# Altium footprint library Custom.PcbLib: 446 footprints (part 24 of 28)
Each footprint in its own frame and in the unit in brackets; x right, y up, seen from the top. Pads: shape width x height; smd on the part's side, far side on the other; paste and mask are expansions set on the pad; w line width, h text height; cw(c..) or ccw(c..) is an arc to the next point about the centre after c.
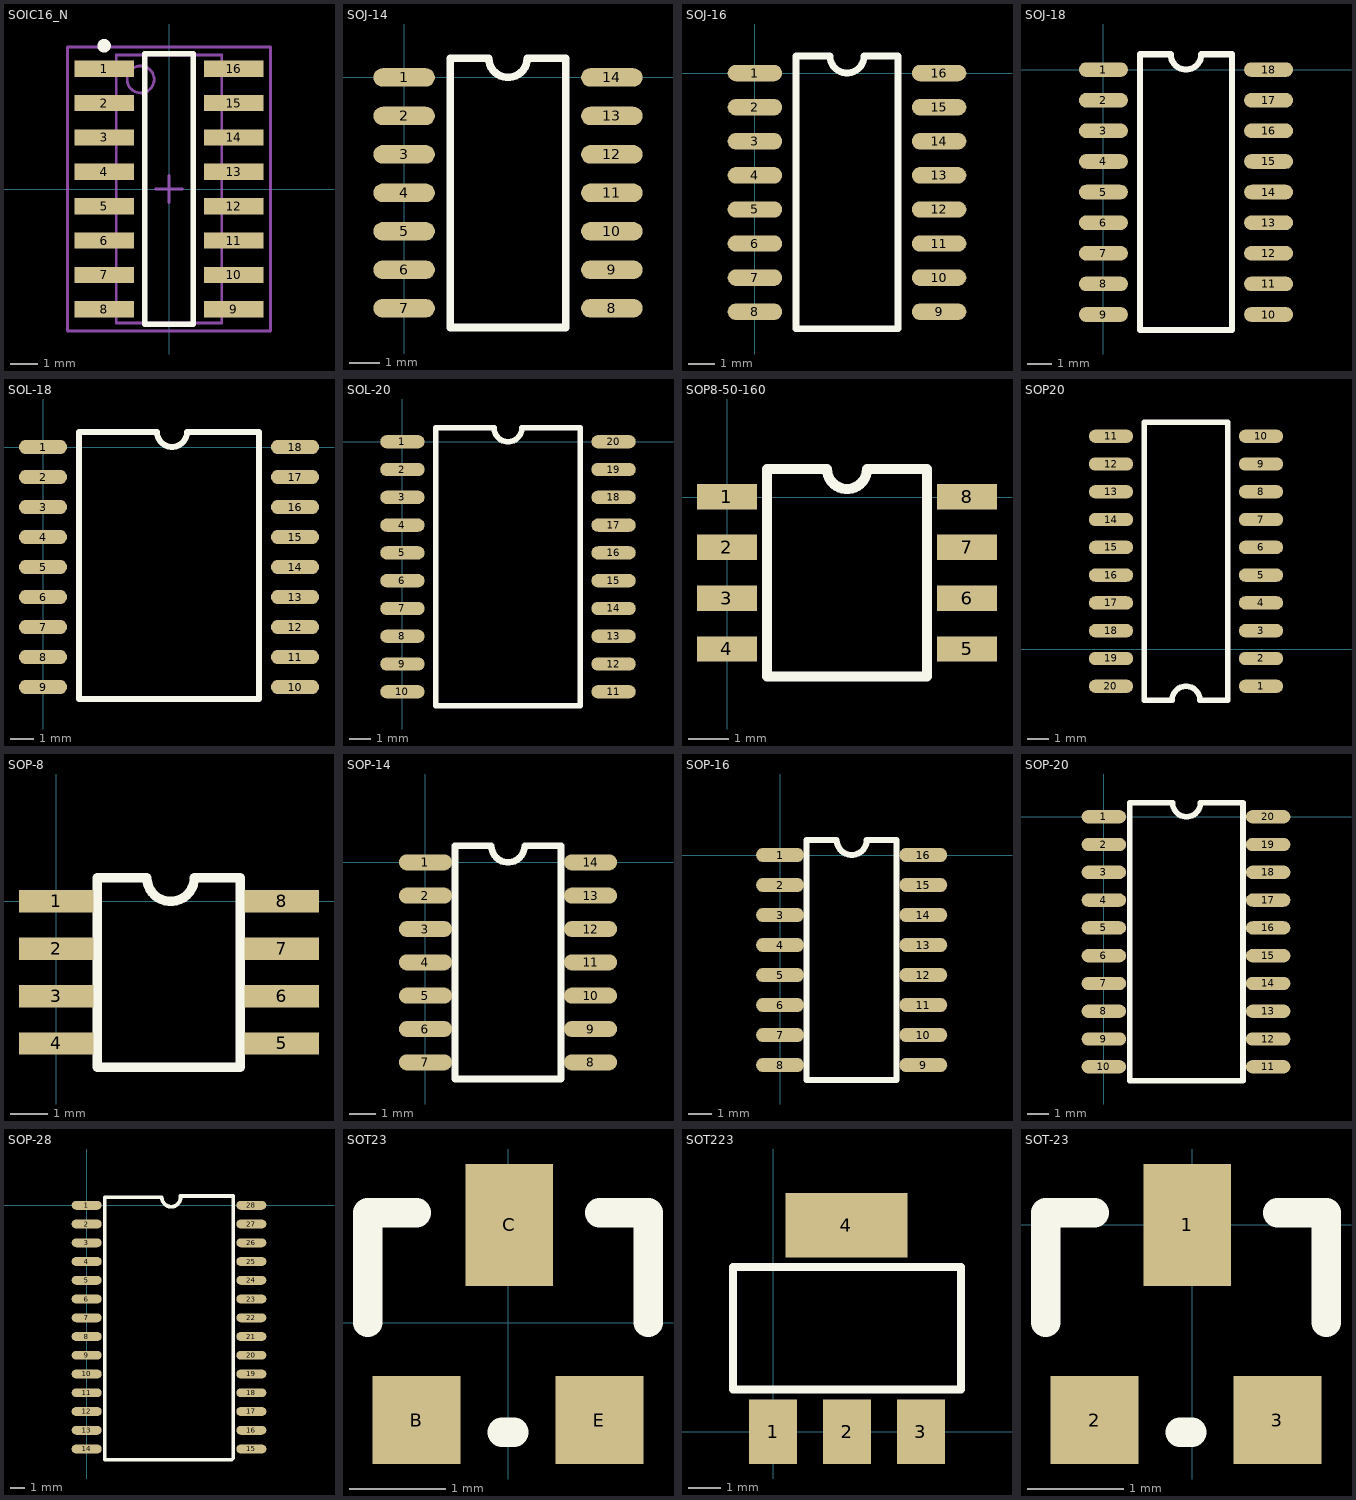
[diagram p23: the footprints below, top view; thin cyan lines are the x and y axes]

## SOIC16_N [mm] "SOIC, 16-Leads, Body 9.9x3.9mm, Pitch 1.27mm, IPC Medium Density"
height 1.91
pads (16):
  rect 2.2x0.6 smd: 1(-2.4,4.445) 2(-2.4,3.175) 3(-2.4,1.905) 4(-2.4,0.635) 5(-2.4,-0.635) 6(-2.4,-1.905) 7(-2.4,-3.175) 8(-2.4,-4.445) 9(2.4,-4.445) 10(2.4,-3.175) 11(2.4,-1.905) 12(2.4,-0.635) 13(2.4,0.635) 14(2.4,1.905) 15(2.4,3.175) 16(2.4,4.445)
Top Overlay:
  circle w0.25: c-2.4,5.295 r0.125
  lines w0.2: -0.9,-5 -0.9,5 0.9,5 0.9,-5 -0.9,-5
Mechanical 13:
  circle w0.1: c-1.05,4.05 r0.5
  lines w0.1: -1.95,-4.95 -1.95,4.95 1.95,4.95 1.95,-4.95 -1.95,-4.95
Mechanical 15:
  lines w0.1: -0.5,0 0.5,0 ; 0,-0.5 0,0.5 ; -3.75,-5.25 -3.75,5.25 3.75,5.25 3.75,-5.25 -3.75,-5.25
3D body: height 1.91, standoff 0, extent -1.95,-4.95 1.95,4.95

## SOJ-14 [mil]
pads (14):
  oval 80x24 smd: 1(0,0) 2(0,-50) 3(0,-100) 4(0,-150) 5(0,-200) 6(0,-250) 7(0,-300) 8(270,-300) 9(270,-250) 10(270,-200) 11(270,-150) 12(270,-100) 13(270,-50) 14(270,0)
Top Overlay:
  lines w10: 60,-325 210,-325 210,25 160,25 cw(c135,25) 110,25 60,25 60,-325

## SOJ-16 [mil]
pads (16):
  oval 80x24 smd: 1(0,0) 2(0,-50) 3(0,-100) 4(0,-150) 5(0,-200) 6(0,-250) 7(0,-300) 8(0,-350) 9(270,-350) 10(270,-300) 11(270,-250) 12(270,-200) 13(270,-150) 14(270,-100) 15(270,-50) 16(270,0)
Top Overlay:
  lines w10: 60,-375 210,-375 210,25 160,25 cw(c135,25) 110,25 60,25 60,-375

## SOJ-18 [mil]
pads (18):
  oval 80x24 smd: 1(0,0) 2(0,-50) 3(0,-100) 4(0,-150) 5(0,-200) 6(0,-250) 7(0,-300) 8(0,-350) 9(0,-400) 10(270,-400) 11(270,-350) 12(270,-300) 13(270,-250) 14(270,-200) 15(270,-150) 16(270,-100) 17(270,-50) 18(270,0)
Top Overlay:
  lines w10: 60,-425 210,-425 210,25 160,25 cw(c135,25) 110,25 60,25 60,-425

## SOL-18 [mil]
pads (18):
  oval 80x24 smd: 1(0,0) 2(0,-50) 3(0,-100) 4(0,-150) 5(0,-200) 6(0,-250) 7(0,-300) 8(0,-350) 9(0,-400) 10(420,-400) 11(420,-350) 12(420,-300) 13(420,-250) 14(420,-200) 15(420,-150) 16(420,-100) 17(420,-50) 18(420,0)
Top Overlay:
  lines w10: 60,-420 360,-420 360,25 240,25 cw(c215,25) 190,25 60,25 60,-420

## SOL-20 [mil]
pads (20):
  oval 80x24 smd: 1(0,0) 2(0,-50) 3(0,-100) 4(0,-150) 5(0,-200) 6(0,-250) 7(0,-300) 8(0,-350) 9(0,-400) 10(0,-450) 11(380,-450) 12(380,-400) 13(380,-350) 14(380,-300) 15(380,-250) 16(380,-200) 17(380,-150) 18(380,-100) 19(380,-50) 20(380,0)
Top Overlay:
  lines w10: 60,-475 60,25 165,25 ccw(c190,25) 215,25 320,25 320,-475 60,-475

## SOP8-50-160 [mm]
pads (8):
  rect 1.5x0.635 smd: 1(-0.009,0.01) 2(-0.009,-1.26) 3(-0.009,-2.53) 4(-0.009,-3.8) 5(5.991,-3.8) 6(5.991,-2.53) 7(5.991,-1.26) 8(5.991,0.01)
Top Overlay:
  lines w0.254: 0.991,-4.49 0.991,0.7 2.491,0.7 ccw(c2.991,0.7) 3.491,0.7 4.991,0.7 4.991,-4.49 0.991,-4.49

## SOP20 [mil]
pads (20):
  oval 80x24 smd: 1(527.41,-66.22) 2(527.41,-16.22) 3(527.41,33.78) 4(527.41,83.78) 5(527.41,133.78) 6(527.41,183.78) 7(527.41,233.78) 8(527.41,283.78) 9(527.41,333.78) 10(527.41,383.78) 11(257.41,383.78) 12(257.41,333.78) 13(257.41,283.78) 14(257.41,233.78) 15(257.41,183.78) 16(257.41,133.78) 17(257.41,83.78) 18(257.41,33.78) 19(257.41,-16.22)
  oval 80x24.02 smd: 20(257.4,-66.22)
Top Overlay:
  lines w10: 317.41,-91.22 367.41,-91.22 cw(c392.41,-91.22) 417.41,-91.22 467.41,-91.22 467.41,408.78 317.41,408.78 317.41,-91.22

## SOP-8 [mm]
pads (8):
  rect 2x0.6 smd: 1(0,0) 2(0,-1.27) 3(0,-2.54) 4(0,-3.81) 5(6.048,-3.81) 6(6.048,-2.54) 7(6.048,-1.27) 8(6.048,0)
Top Overlay:
  lines w0.254: 1.098,-4.445 1.098,0.635 2.433,0.635 ccw(c3.068,0.635) 3.703,0.635 4.938,0.635 4.938,-4.445 1.098,-4.445

## SOP-14 [mil]
pads (14):
  oval 80x24 smd: 1(0,0) 2(0,-50) 3(0,-100) 4(0,-150) 5(0,-200) 6(0,-250) 7(0,-300) 8(247.56,-300) 9(247.56,-250) 10(247.56,-200) 11(247.56,-150) 12(247.56,-100) 13(247.56,-50) 14(247.56,0)
Top Overlay:
  lines w10: 44.25,-325 44.25,25 98.78,25 ccw(c123.78,25) 148.78,25 203.31,25 203.31,-325 44.25,-325

## SOP-16 [mil]
pads (16):
  oval 80x24 smd: 1(0,0) 2(0,-50) 3(0,-100) 4(0,-150) 5(0,-200) 6(0,-250) 7(0,-300) 8(0,-350) 9(238.5,-350) 10(238.5,-300) 11(238.5,-250) 12(238.5,-200) 13(238.5,-150) 14(238.5,-100) 15(238.5,-50) 16(238.5,0)
Top Overlay:
  lines w10: 44.25,-375 44.25,25 94.25,25 ccw(c119.25,25) 144.25,25 194.25,25 194.25,-375 44.25,-375

## SOP-20 [mil]
pads (20):
  oval 80x24 smd: 1(0,0) 2(0,-50) 3(0,-100) 4(0,-150) 5(0,-200) 6(0,-250) 7(0,-300) 8(0,-350) 9(0,-400) 10(0,-450) 11(295.59,-450) 12(295.59,-400) 13(295.59,-350) 14(295.59,-300) 15(295.59,-250) 16(295.59,-200) 17(295.59,-150) 18(295.59,-100) 19(295.59,-50) 20(295.59,0)
Top Overlay:
  lines w10: 46.22,-475 46.22,25 123.78,25 ccw(c148.78,25) 173.78,25 250.35,25 250.35,-475 46.22,-475

## SOP-28 [mil]
pads (28):
  oval 80x24 smd: 1(0,0) 2(0,-50) 3(0,-100) 4(0,-150) 5(0,-200) 6(0,-250) 7(0,-300) 8(0,-350) 9(0,-400) 10(0,-450) 11(0,-500) 12(0,-550) 13(0,-600) 14(0,-650) 15(439.29,-650) 16(439.29,-600) 17(439.29,-550) 18(439.29,-500) 19(439.29,-450) 20(439.29,-400) 21(439.29,-350) 22(439.29,-300) 23(439.29,-250) 24(439.29,-200) 25(439.29,-150) 26(439.29,-100) 27(439.29,-50) 28(439.29,0)
Top Overlay:
  lines w10: 196.61,21.06 48.19,21.06 48.19,-678.94 387.17,-678.94 ; 200.55,21.06 ccw(c225.55,21.06) 250.55,21.06 ; 250.55,25 391.1,25 391.1,-675

## SOT23 [mil]
pads (3):
  rect 36x36 smd: B(-37.5,-40) E(37.5,-40)
  rect 36x50 smd: C(0.5,40)
Top Overlay:
  lines w12: -57.5,0 -57.5,45 -37.5,45 ; -2.5,-45 2.5,-45 ; 37.5,45 57.5,45 57.5,0

## SOT223 [mil]
pads (4):
  rect 59x79 smd: 1(0,0) 2(90.55,0) 3(181.1,0)
  rect 150x79 smd: 4(89.88,253.54)
Top Overlay:
  lines w10: -49.45,52 230.55,52 230.55,202 -49.45,202 -49.45,52

## SOT-23 [mil]
pads (3):
  rect 36x50 smd: 1(-2,0)
  rect 36x36 smd: 2(-40,-80) 3(35,-80)
Top Overlay:
  lines w12: -60,-40 -60,5 -40,5 ; -5,-85 0,-85 ; 35,5 55,5 55,-40